# EAGLE library part R7FS7G27G3A01CFP#AA0 (library Labops_Lib_AH)
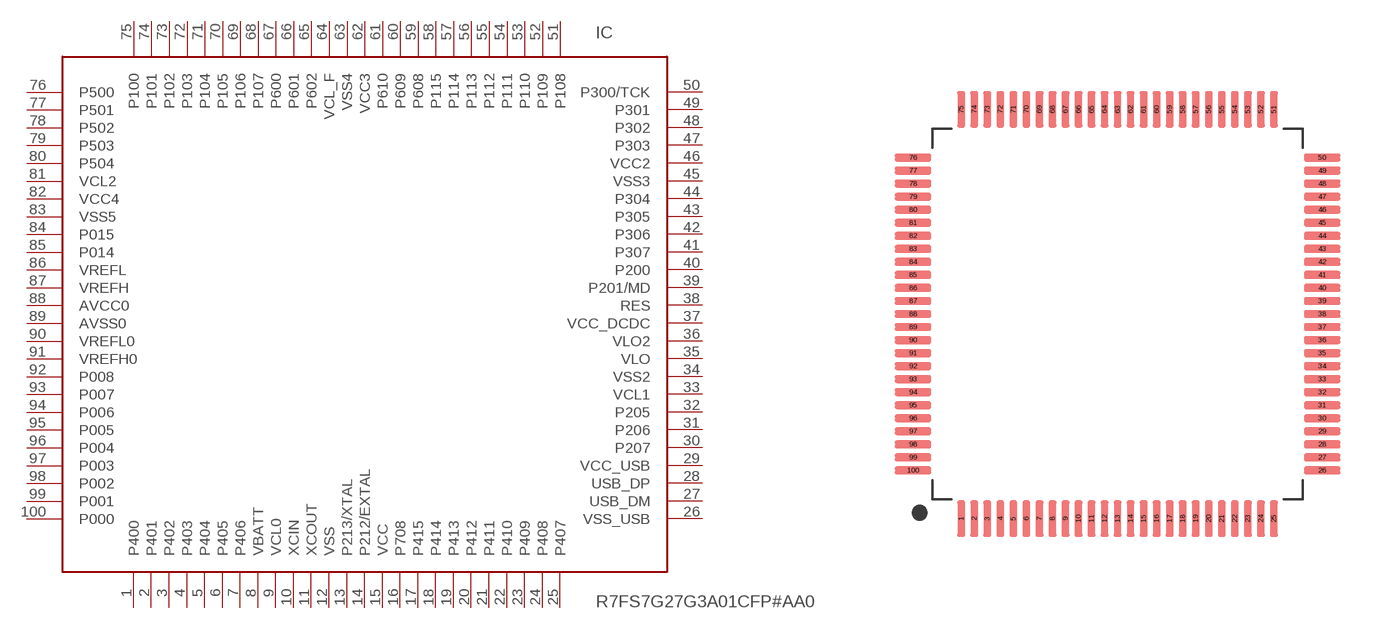
[diagram p75: symbol with the pads of LQFP100; footprint LQFP100]

Designator prefix IC

## R7FS7G27G3A01CFP#AA0 (DESCRIPTION: MCU 32-Bit ARM Cortex M4 3MB Flash 3.3V 100-pin, LQFP100; MFN: R7FS7G27G3A01CFP#AA0; MFR: Renesas; PART_VALUE: R7FS7G27G3A01CFP)  [LQFP100]
1  P400
2  P401
3  P402
4  P403
5  P404
6  P405
7  P406
8  VBATT
9  VCL0
10  XCIN
11  XCOUT
12  VSS
13  P213/XTAL
14  P212/EXTAL
15  VCC
16  P708
17  P415
18  P414
19  P413
20  P412
21  P411
22  P410
23  P409
24  P408
25  P407
26  VSS_USB
27  USB_DM
28  USB_DP
29  VCC_USB
30  P207
31  P206
32  P205
33  VCL1
34  VSS2
35  VLO
36  VLO2
37  VCC_DCDC
38  RES
39  P201/MD
40  P200
41  P307
42  P306
43  P305
44  P304
45  VSS3
46  VCC2
47  P303
48  P302
49  P301
50  P300/TCK
51  P108
52  P109
53  P110
54  P111
55  P112
56  P113
57  P114
58  P115
59  P608
60  P609
61  P610
62  VCC3
63  VSS4
64  VCL_F
65  P602
66  P601
67  P600
68  P107
69  P106
70  P105
71  P104
72  P103
73  P102
74  P101
75  P100
76  P500
77  P501
78  P502
79  P503
80  P504
81  VCL2
82  VCC4
83  VSS5
84  P015
85  P014
86  VREFL
87  VREFH
88  AVCC0
89  AVSS0
90  VREFL0
91  VREFH0
92  P008
93  P007
94  P006
95  P005
96  P004
97  P003
98  P002
99  P001
100  P000

## Footprint LQFP100 (pad centres in mm)
smd 0.3 x 1.4: 1 -6,-7.85; 2 -5.5,-7.85; 3 -5,-7.85; 4 -4.5,-7.85; 5 -4,-7.85; 6 -3.5,-7.85; 7 -3,-7.85; 8 -2.5,-7.85; 9 -2,-7.85; 10 -1.5,-7.85; 11 -1,-7.85; 12 -0.5,-7.85; 13 0,-7.85; 14 0.5,-7.85; 15 1,-7.85; 16 1.5,-7.85; 17 2,-7.85; 18 2.5,-7.85; 19 3,-7.85; 20 3.5,-7.85; 21 4,-7.85; 22 4.5,-7.85; 23 5,-7.85; 24 5.5,-7.85; 25 6,-7.85; 51 6,7.85; 52 5.5,7.85; 53 5,7.85; 54 4.5,7.85; 55 4,7.85; 56 3.5,7.85; 57 3,7.85; 58 2.5,7.85; 59 2,7.85; 60 1.5,7.85; 61 1,7.85; 62 0.5,7.85; 63 0,7.85; 64 -0.5,7.85; 65 -1,7.85; 66 -1.5,7.85; 67 -2,7.85; 68 -2.5,7.85; 69 -3,7.85; 70 -3.5,7.85; 71 -4,7.85; 72 -4.5,7.85; 73 -5,7.85; 74 -5.5,7.85; 75 -6,7.85
smd 1.4 x 0.3: 26 7.85,-6; 27 7.85,-5.5; 28 7.85,-5; 29 7.85,-4.5; 30 7.85,-4; 31 7.85,-3.5; 32 7.85,-3; 33 7.85,-2.5; 34 7.85,-2; 35 7.85,-1.5; 36 7.85,-1; 37 7.85,-0.5; 38 7.85,0; 39 7.85,0.5; 40 7.85,1; 41 7.85,1.5; 42 7.85,2; 43 7.85,2.5; 44 7.85,3; 45 7.85,3.5; 46 7.85,4; 47 7.85,4.5; 48 7.85,5; 49 7.85,5.5; 50 7.85,6; 76 -7.85,6; 77 -7.85,5.5; 78 -7.85,5; 79 -7.85,4.5; 80 -7.85,4; 81 -7.85,3.5; 82 -7.85,3; 83 -7.85,2.5; 84 -7.85,2; 85 -7.85,1.5; 86 -7.85,1; 87 -7.85,0.5; 88 -7.85,0; 89 -7.85,-0.5; 90 -7.85,-1; 91 -7.85,-1.5; 92 -7.85,-2; 93 -7.85,-2.5; 94 -7.85,-3; 95 -7.85,-3.5; 96 -7.85,-4; 97 -7.85,-4.5; 98 -7.85,-5; 99 -7.85,-5.5; 100 -7.85,-6